# EAGLE library part 90G-14 (library strasys_standard)
Weidmüller Clamp Connector
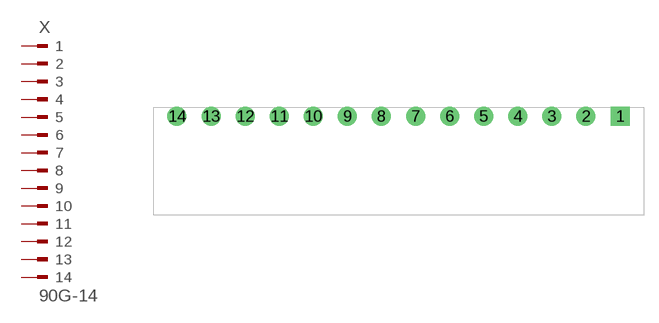
[diagram p0: symbol with the pads of 90G-14; footprint 90G-14]

Designator prefix X

## 90G-14 (MPN: SL 3.50/14/90G; SUPPLIER: Weidmüller)  [90G-14]
1  1  pas
2  2  pas
3  3  pas
4  4  pas
5  5  pas
6  6  pas
7  7  pas
8  8  pas
9  9  pas
10  10  pas
11  11  pas
12  12  pas
13  13  pas
14  14  pas

## Footprint 90G-14 (pad centres in mm)
drill 1.3 square: 1 0,0
drill 1.3: 2 -3.5,0; 3 -7,0; 4 -10.5,0; 5 -14,0; 6 -17.5,0; 7 -21,0; 8 -24.5,0; 9 -28,0; 10 -31.5,0; 11 -35,0; 12 -38.5,0; 13 -42,0; 14 -45.5,0